# Altium footprint library Student_PcbLib_41070.PcbLib: 10 footprints
Each footprint in its own frame and in the unit in brackets; x right, y up, seen from the top. Pads: shape width x height; smd on the part's side, far side on the other; paste and mask are expansions set on the pad; w line width, h text height; cw(c..) or ccw(c..) is an arc to the next point about the centre after c.
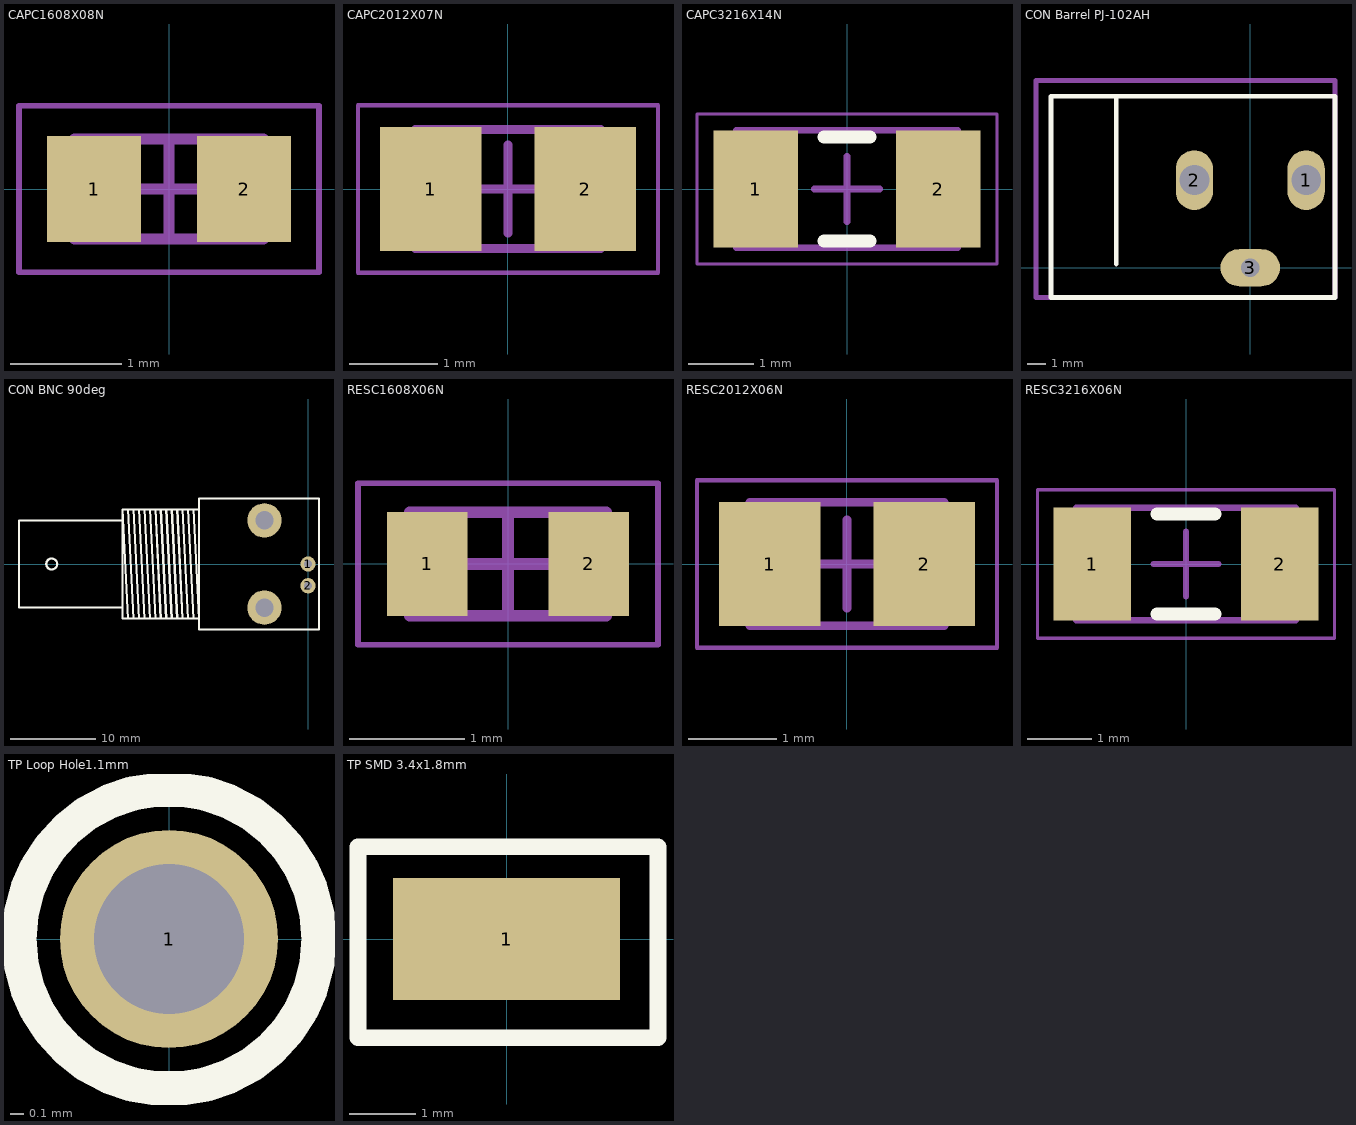
[diagram p0: the footprints below, top view; thin cyan lines are the x and y axes]

## CAPC1608X08N [mm] "Chip Capacitor, 2-Leads, Body 1.60x0.80mm, IPC Medium Density"
height 0.8
pads (2):
  rect 0.85x0.95 smd: 1(-0.675,0) 2(0.675,0)
Mechanical 13:
  lines w0.1: -0.85,-0.45 -0.85,0.45 0.85,0.45 0.85,-0.45 -0.85,-0.45
Mechanical 15:
  lines w0.05: -1.35,-0.75 -1.35,0.75 1.35,0.75 1.35,-0.75 -1.35,-0.75
  lines w0.1: -0.45,0 0.45,0 ; 0,-0.45 0,0.45
3D body: height 0.8, standoff 0, extent -0.5,-0.45 0.5,0.45
3D body: height 0.8, standoff 0, extent -0.85,-0.45 -0.5,0.45
3D body: height 0.8, standoff 0, extent 0.5,-0.45 0.85,0.45

## CAPC2012X07N [mm] "Chip Capacitor, 2-Leads, Body 2.00x1.25mm, IPC Medium Density"
height 0.7
pads (2):
  rect 1.15x1.4 smd: 1(-0.875,0) 2(0.875,0)
Mechanical 13:
  lines w0.1: -1.05,-0.675 -1.05,0.675 1.05,0.675 1.05,-0.675 -1.05,-0.675
Mechanical 15:
  lines w0.05: -1.7,-0.95 -1.7,0.95 1.7,0.95 1.7,-0.95 -1.7,-0.95
  lines w0.1: -0.5,0 0.5,0 ; 0,-0.5 0,0.5
3D body: height 0.7, standoff 0, extent -0.6,-0.675 0.6,0.675
3D body: height 0.7, standoff 0, extent -1.05,-0.675 -0.6,0.675
3D body: height 0.7, standoff 0, extent 0.6,-0.675 1.05,0.675

## CAPC3216X14N [mm] "Chip Capacitor, 2-Leads, Body 3.20x1.60mm, IPC Medium Density"
height 1.4
pads (2):
  rect 1.3x1.8 smd: 1(-1.4,0) 2(1.4,0)
Top Overlay:
  lines w0.2: -0.35,-0.8 0.35,-0.8 ; -0.35,0.8 0.35,0.8
Mechanical 13:
  lines w0.1: -1.7,-0.9 1.7,-0.9 1.7,0.9 -1.7,0.9 -1.7,-0.9
Mechanical 15:
  lines w0.05: -2.3,-1.15 2.3,-1.15 2.3,1.15 -2.3,1.15 -2.3,-1.15
  lines w0.1: -0.5,0 0.5,0 ; 0,-0.5 0,0.5
3D body: height 1.4, standoff 0, extent 1.2,-0.9 1.7,0.9
3D body: height 1.4, standoff 0, extent -1.7,-0.9 -1.2,0.9
3D body: height 1.4, standoff 0, extent -1.2,-0.9 1.2,0.9

## CON Barrel PJ-102AH [mm] "5.5mm Barrel Plug (2.1mm ID)"
height 13.16
pads (3):
  oval 2x3.2 hole 1.6 square: 1(3,4.7) 2(-3,4.7)
  oval 3.2x2 hole 1 square: 3(0,0)
Top Overlay:
  lines w0.254: -7.2,0.2 -7.2,9.2 ; -10.7,-1.6 4.55,-1.6 4.55,3.3 4.55,6.1 4.55,9.2 -10.7,9.2 -10.7,-1.6
Mechanical 21:
  lines w0.254: -11.5,-1.6 4.55,-1.6 4.55,10.05 -11.5,10.05 -11.5,-1.6
3D body "CUI_DEVICES_PJ-102AH.step": height 11.01, standoff -3.49, extent -10.65,-0.25 3.75,9.15

## CON BNC 90deg [mil] "BNC INSULATED 90 Degrees"
height 500
pads (4):
  round 70 hole 36: 1(0,0) 2(0,-100)
  round 157.48 hole 84: ""(-200,-200) ""(-200,200)
Top Overlay:
  circle w10: c-1175,0 r25
  lines w10: -850,-200 -1325,-200 -1325,200 -850,200 ; -825,-250 -850,250 ; -825,250 -800,-250 ; -800,250 -775,-250 ; -775,250 -750,-250 ; -750,250 -725,-250 ; -725,250 -700,-250 ; -700,250 -675,-250 ; -675,250 -650,-250 ; -650,250 -625,-250 ; -625,250 -600,-250 ; -600,250 -575,-250 ; -575,250 -550,-250 ; -550,250 -525,-250 ; -500,250 -525,250 ; -850,250 -850,-250 -500,-250 -525,250 ; -850,250 -525,250 ; -500,-300 -500,-275 -500,300 50,300 50,-300 -500,-300
3D body "User Library-BNC_AMP_227161-2.STEP": height 605, standoff -162, extent -1290,-290.5 90,290.5

## RESC1608X06N [mm] "Chip Resistor 0603, 2-Leads, Body 1.60x0.80mm, IPC Medium Density"
height 0.45
pads (2):
  rect 0.7x0.9 smd: 1(-0.7,0) 2(0.7,0)
Mechanical 13:
  lines w0.1: -0.85,-0.45 0.85,-0.45 0.85,0.45 -0.85,0.45 -0.85,-0.45
Mechanical 15:
  lines w0.05: -1.3,-0.7 1.3,-0.7 1.3,0.7 -1.3,0.7 -1.3,-0.7
  lines w0.1: -0.45,0 0.45,0 ; 0,-0.45 0,0.45
3D body: height 0.45, standoff 0, extent 0.6,-0.45 0.85,0.45
3D body: height 0.45, standoff 0, extent -0.85,-0.45 -0.6,0.45
3D body: height 0.45, standoff 0, extent -0.6,-0.45 0.6,0.45

## RESC2012X06N [mm] "Chip Resistor 0805, 2-Leads, Body 2.00x1.25mm, IPC Medium Density"
height 0.65
pads (2):
  rect 1.15x1.4 smd: 1(-0.875,0) 2(0.875,0)
Mechanical 13:
  lines w0.1: -1.1,-0.7 -1.1,0.7 1.1,0.7 1.1,-0.7 -1.1,-0.7
Mechanical 15:
  lines w0.05: -1.7,-0.95 -1.7,0.95 1.7,0.95 1.7,-0.95 -1.7,-0.95
  lines w0.1: -0.5,0 0.5,0 ; 0,-0.5 0,0.5
3D body "RESC2012X06N.step": height 0.65, standoff 0, extent -1.1,-0.7 1.1,0.7

## RESC3216X06N [mm] "Chip Resistor, 2-Leads, Body 3.20x1.60mm, IPC Medium Density"
height 0.65
pads (2):
  rect 1.2x1.75 smd: 1(-1.45,0) 2(1.45,0)
Top Overlay:
  lines w0.2: -0.45,-0.775 0.45,-0.775 ; -0.45,0.775 0.45,0.775
Mechanical 13:
  lines w0.1: -1.7,-0.875 -1.7,0.875 1.7,0.875 1.7,-0.875 -1.7,-0.875
Mechanical 15:
  lines w0.05: -2.3,-1.15 -2.3,1.15 2.3,1.15 2.3,-1.15 -2.3,-1.15
  lines w0.1: -0.5,0 0.5,0 ; 0,-0.5 0,0.5
3D body "RESC3216X06N.step": height 0.65, standoff 0, extent -1.7,-0.875 1.7,0.875

## TP Loop Hole1.1mm [mm] "Keystone 5001"
height 4.6
pads (1):
  round 1.6 hole 1.1: 1(0,0)
Top Overlay:
  circle w0.254: c0,0 r1.1

## TP SMD 3.4x1.8mm [mm] "Test Point SMD"
height 2
pads (1):
  rect 3.45x1.85 smd: 1(0,0)
Top Overlay:
  lines w0.254: -2.258,1.392 -2.258,-1.5 2.3,-1.5 2.3,1.4 -2.258,1.4